# Altium schematic symbol library Schlib1.SchLib: 1 symbol
Pins are listed as number, name and electrical type; pins without a type are passive.

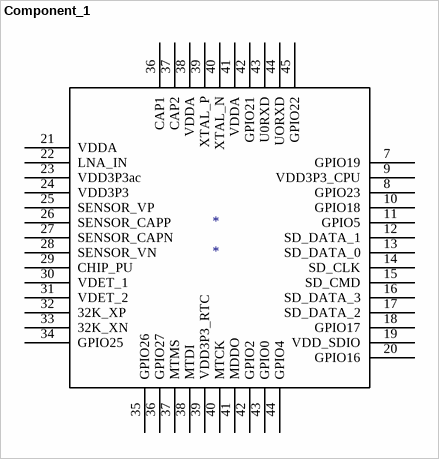
[diagram p0: symbol Component_1]

## Component_1
designator *
pins: 7 GPIO19, 8 GPIO23, 9 VDD3P3_CPU, 10 GPIO18, 11 GPIO5, 12 SD_DATA_1, 13 SD_DATA_0, 14 SD_CLK, 15 SD_CMD, 16 SD_DATA_3, 17 SD_DATA_2, 18 GPIO17, 19 VDD_SDIO, 20 GPIO16, 21 VDDA, 22 LNA_IN, 23 VDD3P3ac, 24 VDD3P3, 25 SENSOR_VP, 26 SENSOR_CAPP, 27 SENSOR_CAPN, 28 SENSOR_VN, 29 CHIP_PU, 30 VDET_1, 31 VDET_2, 32 32K_XP, 33 32K_XN, 34 GPIO25, 35 GPIO26, 36 CAP1, 36 GPIO27, 37 CAP2, 37 MTMS, 38 VDDA, 38 MTDI, 39 XTAL_P, 39 VDD3P3_RTC, 40 XTAL_N, 40 MTCK, 41 VDDA, 41 MDDO, 42 GPIO21, 42 GPIO2, 43 U0RXD, 43 GPIO0, 44 UORXD, 44 GPIO4, 45 GPIO22